# Altium schematic symbol library WE-UKW.SchLib: 9 symbols
Pins are listed as number, name and electrical type; pins without a type are passive.

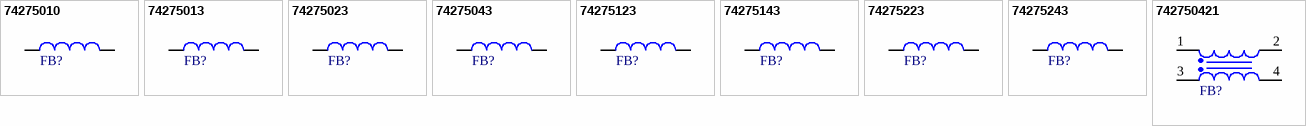
[diagram p0: symbols 74275010 to 742750421]

## 74275010
designator FB?, comment 860Ohm  (value not drawn)
WE-UKW EMI Suppression 6-Hole Ferrite Bead, 860Ohm, 3A; Manufacturer Part Number: 74275010; Manufacturer: Wurth Elektronik; DC Resistance Max: 20mOhm; Impedance @25MHz: 623Ohm; Impedance Max: 865Ohm; Impedance Max Test Condition: 75MHz; Category: Ferrites for PCB Assembly; Match Code: WE-UKW; ComponentLink1Description: Website Link; ComponentLink1URL: https://www.we-online.com/redexpert/article/74275010?ad; ComponentLink2Description: Datasheet Link; ComponentLink2URL: https://www.we-online.com/redexpert/spec/74275010?ad; Mount: Through Hole; Operating Temperature Max: 125°C; Operating Temperature Min: -55°C; Packaging: Bag; Height: 10mm; Diameter: 6mm; Impedance @100MHz: 860Ohm; Rated Current: 3A
footprint 74275010
simulation model 5060_74275010_860ohm
pins: 1, 2

## 74275013
designator FB?, comment 950Ohm  (value not drawn)
WE-UKW EMI Suppression 6-Hole Ferrite Bead, 950Ohm, 3A; Manufacturer Part Number: 74275013; Manufacturer: Wurth Elektronik; DC Resistance Max: 20mOhm; Impedance @25MHz: 650Ohm; Impedance Max: 1180Ohm; Impedance Max Test Condition: 60MHz; Category: Ferrites for PCB Assembly; Match Code: WE-UKW; ComponentLink1Description: Website Link; ComponentLink1URL: https://www.we-online.com/redexpert/article/74275013?ad; ComponentLink2Description: Datasheet Link; ComponentLink2URL: https://www.we-online.com/redexpert/spec/74275013?ad; Mount: Through Hole; Operating Temperature Max: 125°C; Operating Temperature Min: -55°C; Packaging: Bag; Height: 10mm; Diameter: 6mm; Impedance @100MHz: 950Ohm; Rated Current: 3A
footprint 74275013
simulation model 2060_74275013_950ohm
pins: 1, 2

## 74275023
designator FB?, comment 1240Ohm  (value not drawn)
WE-UKW EMI Suppression 6-Hole Ferrite Bead, 1240Ohm, 3A; Manufacturer Part Number: 74275023; Manufacturer: Wurth Elektronik; DC Resistance Max: 20mOhm; Impedance @25MHz: 720Ohm; Impedance Max: 1250Ohm; Impedance Max Test Condition: 70MHz; Category: Ferrites for PCB Assembly; Match Code: WE-UKW; ComponentLink1Description: Website Link; ComponentLink1URL: https://www.we-online.com/redexpert/article/74275023?ad; ComponentLink2Description: Datasheet Link; ComponentLink2URL: https://www.we-online.com/redexpert/spec/74275023?ad; Mount: Through Hole; Operating Temperature Max: 125°C; Operating Temperature Min: -55°C; Packaging: Bag; Height: 10mm; Diameter: 6mm; Impedance @100MHz: 1240Ohm; Rated Current: 3A
footprint 74275023
simulation model 2060_74275023_1240ohm
pins: 1, 2

## 74275043
designator FB?, comment 961Ohm  (value not drawn)
WE-UKW EMI Suppression 6-Hole Ferrite Bead, 961Ohm, 3A; Manufacturer Part Number: 74275043; Manufacturer: Wurth Elektronik; DC Resistance Max: 20mOhm; Impedance @25MHz: 920Ohm; Impedance Max: 1100Ohm; Impedance Max Test Condition: 60MHz; Category: Ferrites for PCB Assembly; Match Code: WE-UKW; ComponentLink1Description: Website Link; ComponentLink1URL: https://www.we-online.com/redexpert/article/74275043?ad; ComponentLink2Description: Datasheet Link; ComponentLink2URL: https://www.we-online.com/redexpert/spec/74275043?ad; Mount: Through Hole; Operating Temperature Max: 125°C; Operating Temperature Min: -55°C; Packaging: Bag; Height: 10mm; Diameter: 6mm; Impedance @100MHz: 961Ohm; Rated Current: 3A
footprint 74275043
simulation model 3860_74275043_961ohm
pins: 1, 2

## 74275123
designator FB?, comment 1240Ohm  (value not drawn)
WE-UKW EMI Suppression 6-Hole Ferrite Bead, 1240Ohm, 3A; Manufacturer Part Number: 74275123; Manufacturer: Wurth Elektronik; DC Resistance Max: 20mOhm; Impedance @25MHz: 720Ohm; Impedance Max: 1250Ohm; Impedance Max Test Condition: 70MHz; Category: Ferrites for PCB Assembly; Match Code: WE-UKW; ComponentLink1Description: Website Link; ComponentLink1URL: https://www.we-online.com/redexpert/article/74275123?ad; ComponentLink2Description: Datasheet Link; ComponentLink2URL: https://www.we-online.com/redexpert/spec/74275123?ad; Mount: Through Hole; Operating Temperature Max: 125°C; Operating Temperature Min: -55°C; Packaging: Bag; Height: 10mm; Diameter: 6mm; Impedance @100MHz: 1240Ohm; Rated Current: 3A
footprint 74275123
simulation model 6060_74275123_1240ohm
pins: 1, 2

## 74275143
designator FB?, comment 961Ohm  (value not drawn)
WE-UKW EMI Suppression 6-Hole Ferrite Bead, 961Ohm, 3A; Manufacturer Part Number: 74275143; Manufacturer: Wurth Elektronik; DC Resistance Max: 20mOhm; Impedance @25MHz: 920Ohm; Impedance Max: 1100Ohm; Impedance Max Test Condition: 60MHz; Category: Ferrites for PCB Assembly; Match Code: WE-UKW; ComponentLink1Description: Website Link; ComponentLink1URL: https://www.we-online.com/redexpert/article/74275143?ad; ComponentLink2Description: Datasheet Link; ComponentLink2URL: https://www.we-online.com/redexpert/spec/74275143?ad; Mount: Through Hole; Operating Temperature Max: 125°C; Operating Temperature Min: -55°C; Packaging: Bag; Height: 10mm; Diameter: 6mm; Impedance @100MHz: 961Ohm; Rated Current: 3A
footprint 74275143
simulation model 6060_74275143_961ohm
pins: 1, 2

## 74275223
designator FB?, comment 1240Ohm  (value not drawn)
WE-UKW EMI Suppression 6-Hole Ferrite Bead, 1240Ohm, 3A; Manufacturer Part Number: 74275223; Manufacturer: Wurth Elektronik; DC Resistance Max: 20mOhm; Impedance @25MHz: 720Ohm; Impedance Max: 1250Ohm; Impedance Max Test Condition: 70MHz; Category: Ferrites for PCB Assembly; Match Code: WE-UKW; ComponentLink1Description: Website Link; ComponentLink1URL: https://www.we-online.com/redexpert/article/74275223?ad; ComponentLink2Description: Datasheet Link; ComponentLink2URL: https://www.we-online.com/redexpert/spec/74275223?ad; Mount: Through Hole; Operating Temperature Max: 125°C; Operating Temperature Min: -55°C; Packaging: Bag; Height: 10mm; Diameter: 6mm; Impedance @100MHz: 1240Ohm; Rated Current: 3A
footprint 74275223
simulation model 6560_74275223_1240ohm
pins: 1, 2

## 74275243
designator FB?, comment 961Ohm  (value not drawn)
WE-UKW EMI Suppression 6-Hole Ferrite Bead, 961Ohm, 3A; Manufacturer Part Number: 74275243; Manufacturer: Wurth Elektronik; DC Resistance Max: 20mOhm; Impedance @25MHz: 920Ohm; Impedance Max: 1050Ohm; Impedance Max Test Condition: 80MHz; Category: Ferrites for PCB Assembly; Match Code: WE-UKW; ComponentLink1Description: Website Link; ComponentLink1URL: https://www.we-online.com/redexpert/article/74275243?ad; ComponentLink2Description: Datasheet Link; ComponentLink2URL: https://www.we-online.com/redexpert/spec/74275243?ad; Mount: Through Hole; Operating Temperature Max: 125°C; Operating Temperature Min: -55°C; Packaging: Bag; Height: 10mm; Diameter: 6mm; Impedance @100MHz: 961Ohm; Rated Current: 3A
footprint 74275243
simulation model 6560_74275243_920ohm
pins: 1, 2

## 742750421
designator FB?, comment 230Ohm  (value not drawn)
WE-UKW EMI Suppression 6-Hole Ferrite Bead, 230Ohm, 3A; Manufacturer Part Number: 742750421; Manufacturer: Wurth Elektronik; DC Resistance Max: 20mOhm; Impedance @25MHz: 145Ohm; Impedance Max: 280Ohm; Impedance Max Test Condition: 670MHz; Category: Ferrites for PCB Assembly; Match Code: WE-UKW; ComponentLink1Description: Website Link; ComponentLink1URL: https://www.we-online.com/redexpert/article/742750421?ad; ComponentLink2Description: Datasheet Link; ComponentLink2URL: https://www.we-online.com/redexpert/spec/742750421?ad; Mount: Through Hole; Operating Temperature Max: 125°C; Operating Temperature Min: -55°C; Packaging: Bag; Height: 10mm; Diameter: 6mm; Impedance @100MHz: 230Ohm; Rated Current: 3A
footprint 742750421
pins: 1, 2, 3, 4